# Altium footprint library 1_2301994_0.PcbLib: 1 footprints
Each footprint in its own frame and in the unit in brackets; x right, y up, seen from the top. Pads: shape width x height; smd on the part's side, far side on the other; paste and mask are expansions set on the pad; w line width, h text height; cw(c..) or ccw(c..) is an arc to the next point about the centre after c.
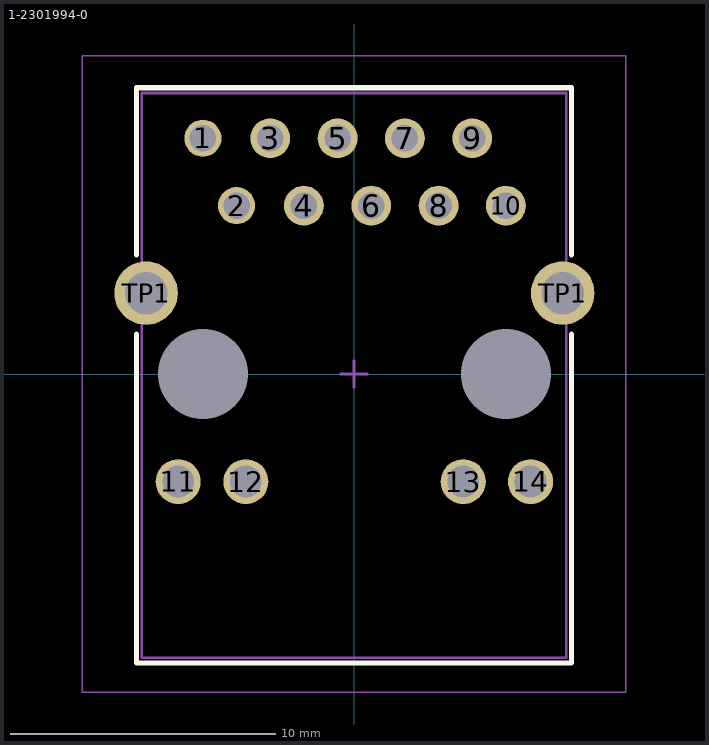
[diagram p0: the footprint, top view; thin cyan lines are the x and y axes]

## 1-2301994-0 [mm] "RJ45 with Integrated Magnetics, 1 Gbps, LED, R/A Type"
height 13.63
pads (18):
  round 1.4 hole 1: 1(-5.7,8.89) 2(-4.43,6.35)
  round 1.5 hole 1: 3(-3.16,8.89) 4(-1.89,6.35) 5(-0.62,8.89) 6(0.65,6.35) 7(1.92,8.89) 8(3.19,6.35) 9(4.46,8.89) 10(5.73,6.35)
  round 1.7 hole 1.2: 11(-6.63,-4.06) 12(-4.08,-4.06) 13(4.12,-4.06) 14(6.66,-4.06)
  round 2.4 hole 1.6: TP1(-7.84,3.05) TP1(7.87,3.05)
  round 0 hole 3.4: ""(-5.7,0) ""(5.73,0)
Top Overlay:
  lines w0.2: -8.2,1.5 -8.2,-10.9 8.2,-10.9 8.2,1.5 ; -8.2,4.5 -8.2,10.8 0.3,10.8 8.2,10.8 8.2,4.5
Top Comment:
  text ".Comment" at 1,12.35 h1.2
Top Designator:
  text ".Designator" at -0.5,12.35 h1.2
Top Component Outline:
  lines w0.1: -8,-10.7 8,-10.7 8,10.6 -0.6,10.6 -8,10.6 -8,-10.7
Top Courtyard (Mech15):
  lines w0.05: -10.25,-12 10.25,-12 10.25,12 -10.25,12 -10.25,-12
  lines w0.1: -0.5,0 0.5,0 ; 0,-0.5 0,0.5
3D body "c-1-2301994-0-b-3d.stp": height 15.62, standoff -3.68, extent -9.98,-10.745 10.02,10.605